# Altium schematic symbol library Connector-VH-3.96.SchLib: 1 symbol
Pins are listed as number, name and electrical type; pins without a type are passive.

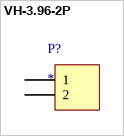
[diagram p0: symbol VH-3.96-2P]

## VH-3.96-2P
designator P?
footprint VH-3.96_2P_A
footprint VH-3.96_2P_AW
footprint VH-3.96_2P_AWT
pins: 1, 2